# Altium schematic symbol library C39832249.SCHLIB: 1 symbol
Pins are listed as number, name and electrical type; pins without a type are passive.

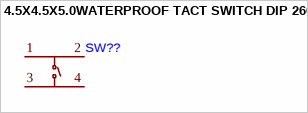
[diagram p0: symbol 4.5X4.5X5.0WATERPROOF TACT SWITCH DIP 260G]

## 4.5X4.5X5.0WATERPROOF TACT SWITCH DIP 260G
designator SW??
footprint SW-TH_4P-L4.5-W4.5-P3.00-LS5.5
pins: 1 A, 2 B, 3 C, 4 D